# EAGLE library part LM3405 (library m_vreg)
Switchmode Regulator
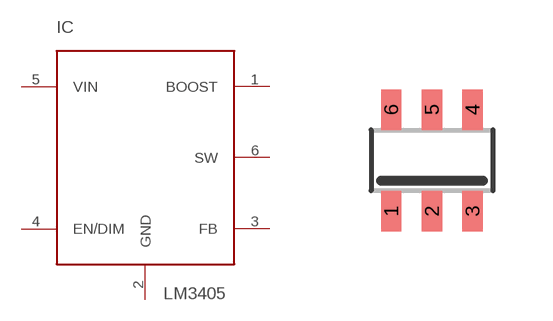
[diagram p0: symbol with the pads of SOT23-6; footprint SOT23-6]

Designator prefix IC

## LM3405  [SOT23-6]
1  BOOST
2  GND  pwr
3  FB
4  EN/DIM
5  VIN  pwr
6  SW

## Footprint SOT23-6 (pad centres in mm)
smd 0.508 x 1.016: 1 -1.016,-1.27; 2 0,-1.27; 3 1.016,-1.27; 4 1.016,1.27; 5 0,1.27; 6 -1.016,1.27